# Altium schematic symbol library Ceramic_Antenna.SchLib: 2 symbols
Pins are listed as number, name and electrical type; pins without a type are passive.

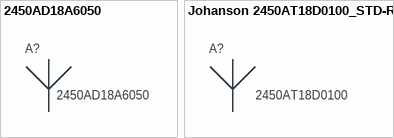
[diagram p0: symbols 2450AD18A6050 to Johanson 2450AT18D0100_STD-R]

## 2450AD18A6050
designator A?
2.4, 5, and 6GHz BT/WiFi6E Mini Antenna, Single-feed, Tri-band, Corner Mount; Manufacturer: Johanson Technology; Pad Count: 2; Part Number: 2450AD18A6050; Author: hany; Manufacturer Part Number: 2450AD18A6050; ComponentLink1URL: https://www.johansontechnology.com/datasheets/2450AD18A6050/2450AD18A6050.pdf; ComponentLink1Description: Datasheet; Value: 2450AD18A6050; Supplier 1: Mouser; Supplier 2: Digi-Key; Supplier 1 URL: N/A; Supplier 2 URL: N/A; LCSC Part #: N/A; Mount: SMD/SMT; Operating Temperature Max: + 155 C; Operating Temperature Min: - 55 C; Supplier 1 Part Number: N/A; Supplier 2 Part Number: N/A; Supplier 3: thegioiic; Supplier 3 Part Number: N/A; Supplier 3 URL: N/A
footprint 2450AD18A6050
pins: 1

## Johanson 2450AT18D0100_STD-R
designator A?, comment 2450AT18D0100
2.45 GHz chip antenna; Part Number: Johanson 2450AT18D0100_STD-R; Manufacturer: Johanson Technology; Pad Count: 4; Author: rsk; Manufacturer Part Number: 2450AT18D0100; ComponentLink1URL: N/A; ComponentLink1Description: Datasheet; Value: 2450AT18D0100; Supplier 1: Mouser; Supplier 2: Digi-Key; Supplier 1 URL: N/A; LCSC Part #: N/A; Mount: SMD/SMT; Operating Temperature Max: + 155 C; Operating Temperature Min: - 55 C; Supplier 1 Part Number: N/A; Supplier 2 Part Number: N/A; Supplier 2 URL: N/A; Supplier 3: thegioiic; Supplier 3 Part Number: N/A; Supplier 3 URL: N/A
footprint 2450AT18D0100_STD-R
pins: 1, 2 GND (power) hidden to GND